# Altium footprint library PcbLib1.PcbLib: 5 footprints
Each footprint in its own frame and in the unit in brackets; x right, y up, seen from the top. Pads: shape width x height; smd on the part's side, far side on the other; paste and mask are expansions set on the pad; w line width, h text height; cw(c..) or ccw(c..) is an arc to the next point about the centre after c.
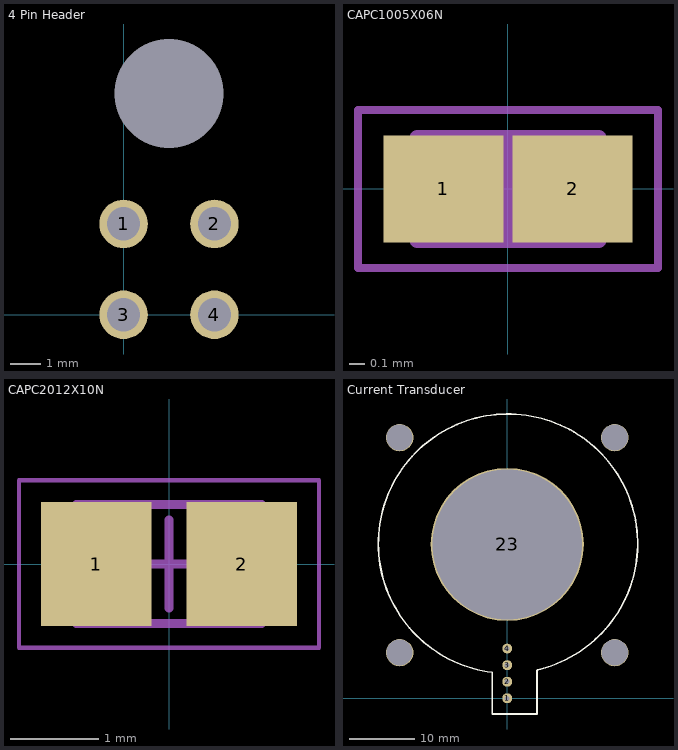
[diagram p0: the footprints below, top view; thin cyan lines are the x and y axes]

## 4 Pin Header [mm]
pads (5):
  round 1.6 hole 1.1: 1(0,3) 2(3,3) 3(0,0) 4(3,0)
  round 3 hole 3.6: ""(1.5,7.3)
3D body: height 0.25, standoff 0, extent -3.325,-0.32 6.325,11.9
3D body: height 16.5, standoff -3.5, extent -1.651,-3.556 -1.651,-3.556
3D body: height 16.5, standoff -3.5, extent 2.794,1.524 2.794,1.524
3D body: height 16.5, standoff -3.5, extent 1.143,1.524 1.143,1.524
3D body: height 16.5, standoff -3.5, extent 1.016,4.318 1.016,4.318
3D body: height 16.5, standoff -3.5, extent 26.797,-9.779 26.797,-9.779
3D body: height 16.5, standoff -3.5, extent 26.797,-8.636 26.797,-8.636
3D body: height 16.5, standoff -3.5, extent 1.524,1.905 1.524,1.905
3D body: height 16.5, standoff -3.5, extent 0.508,0.127 0.508,0.127

## 0402 Capacitor [mm]

## CAPC1005X06N [mm] "Chip Capacitor, 2-Leads, Body 1.00x0.50mm, IPC Medium Density"
height 0.65
pads (2):
  rect 0.76x0.68 smd: 1(-0.41,0) 2(0.41,0)
Mechanical 13:
  lines w0.1: -0.575,-0.325 -0.575,0.325 0.575,0.325 0.575,-0.325 -0.575,-0.325
Mechanical 15:
  lines w0.05: -0.95,-0.5 -0.95,0.5 0.95,0.5 0.95,-0.5 -0.95,-0.5
  lines w0.1: -0.325,0 0.325,0 ; 0,-0.325 0,0.325
3D body: height 0.65, standoff 0, extent -0.325,-0.325 0.325,0.325
3D body: height 0.65, standoff 0, extent -0.575,-0.325 -0.325,0.325
3D body: height 0.65, standoff 0, extent 0.325,-0.325 0.575,0.325

## CAPC2012X10N [mm] "Chip Capacitor, 2-Leads, Body 2.00x1.25mm, IPC Medium Density"
height 0.95
pads (2):
  rect 1.25x1.4 smd: 1(-0.825,0) 2(0.825,0)
Mechanical 13:
  lines w0.1: -1.05,-0.675 -1.05,0.675 1.05,0.675 1.05,-0.675 -1.05,-0.675
Mechanical 15:
  lines w0.05: -1.7,-0.95 -1.7,0.95 1.7,0.95 1.7,-0.95 -1.7,-0.95
  lines w0.1: -0.5,0 0.5,0 ; 0,-0.5 0,0.5
3D body "CAPC2012X10N.step": height 0.95, standoff 0, extent -1.05,-0.675 1.05,0.675

## Current Transducer [mm]
pads (9):
  round 1.52 hole 0.762: 1(0,0)
  round 1.524 hole 0.762: 2(0,2.54) 3(0,5.08) 4(0,7.62)
  round 23.5 hole 23: 23(0,23.62)
  round 4.2 hole 4: ""(-16.5,7) ""(-16.5,40) ""(16.5,7) ""(16.5,40)
Top Layer:
  pour cut-out: 16.764,0.254
Top Overlay:
  circle w0.254: c0,23.749 r11.05
  lines w0.254: -2.286,3.937 -2.286,-2.413 4.572,-2.413 4.572,4.318 ; -2.281,3.981 cw(c0.119,23.732) 4.595,4.346
3D body: height 0.25, standoff 0, extent 5.207,7.239 5.207,7.239
3D body "HTFS_XXX-P series_blackbox.stp": height 18, standoff -2, extent -20,-2.4 20,43.6